# Altium schematic symbol library XT90PW-M.Schlib: 1 symbol
Pins are listed as number, name and electrical type; pins without a type are passive.

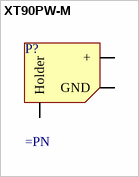
[diagram p0: symbol XT90PW-M]

## XT90PW-M
designator P?
pins: 1 +, 2 GND, 3 Holder